# EAGLE library part IW1224SA (library KylePile)
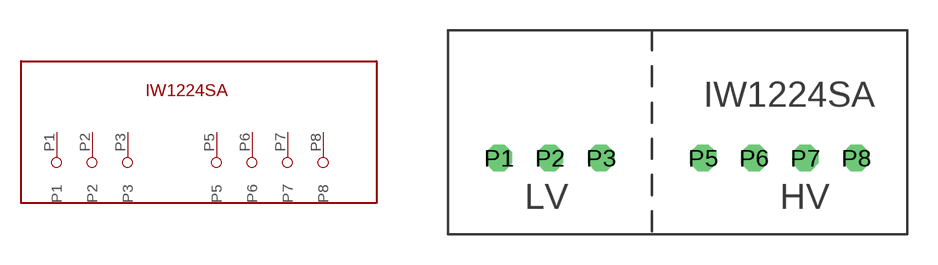
[diagram p1: symbol with the pads of 8-SIP; footprint 8-SIP]

Designator prefix -

## IW1224SA  [8-SIP]
P1  P1
P2  P2
P3  P3
P5  P5
P6  P6
P7  P7
P8  P8

## Footprint 8-SIP (pad centres in mm)
drill 0.8 octagon: P1 -8.89,0; P2 -6.35,0; P3 -3.81,0; P5 1.27,0; P6 3.81,0; P7 6.35,0; P8 8.89,0